# EAGLE library part DS2782 (library airball)
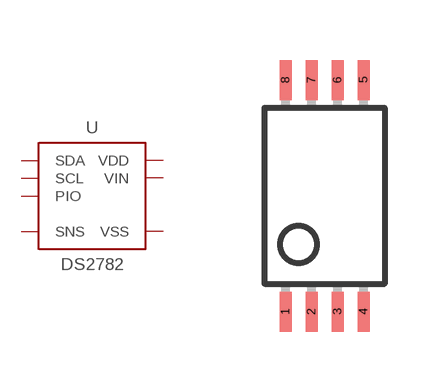
[diagram p2: symbol with the pads of TSSOP8; footprint TSSOP8]

Designator prefix -

## DS2782  [TSSOP8]
2  VSS  pwr
3  VIN  pwr
4  VDD  pwr
5  SDA
6  SCL  in
7  SNS  pwr
8  PIO

## Footprint TSSOP8 (pad centres in mm)
Thin Shrink Small Outline Plastic 8 Modeled from https://pdfserv.maximintegrated.com/package_dwgs/21-0175.PDF
smd 0.3 x 1: 1 -0.975,-2.9; 2 -0.325,-2.9; 3 0.325,-2.9; 4 0.975,-2.9; 5 0.975,2.9; 6 0.325,2.9; 7 -0.325,2.9; 8 -0.975,2.9